# Altium footprint library PTS635SL50LFS.PcbLib: 1 footprints
Each footprint in its own frame and in the unit in brackets; x right, y up, seen from the top. Pads: shape width x height; smd on the part's side, far side on the other; paste and mask are expansions set on the pad; w line width, h text height; cw(c..) or ccw(c..) is an arc to the next point about the centre after c.
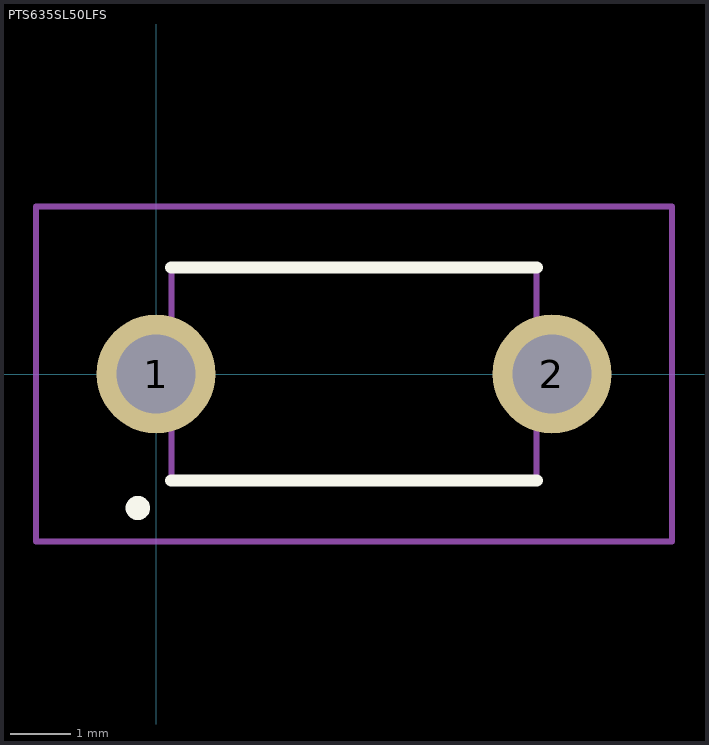
[diagram p0: the footprint, top view; thin cyan lines are the x and y axes]

## PTS635SL50LFS [mm]
pads (2):
  round 1.95 hole 1.3: 1(0,0) 2(6.5,0)
Top Overlay:
  lines w0.2: 0.25,-1.75 6.25,-1.75 ; 0.25,1.75 6.25,1.75 ; -0.4,-2.2 cw(c-0.3,-2.2) -0.2,-2.2 ; -0.4,-2.2 -0.4,-2.2 ; -0.4,-2.2 ccw(c-0.3,-2.2) -0.2,-2.2 ; -0.2,-2.2 -0.2,-2.2
Mechanical 15:
  lines w0.1: 0.25,-1.75 6.25,-1.75 6.25,1.75 0.25,1.75 0.25,-1.75
Mechanical 20:
  lines w0.1: -1.975,-2.75 8.475,-2.75 8.475,2.75 -1.975,2.75 -1.975,-2.75
3D body "PTS635SL50LFS.stp": height 5.8, standoff -4.65, extent -10,-3.376 10,3.376